# EAGLE library part 692121130100 (library Wurth-USB)
WR-COM USB 3.0 REVERSE HORIZONTAL TYPE A WITH OFFSET 0.14mm=>Code : Con_I-O_COM_USB-3.0_A_692121130100 <http://katalog.we-online.de/media/images/eican/Con_I-O_COM_USB-3.0_A_692121130100_pf2.jpg> Details see: http://katalog.we-online.de/en/em/COM_3_0_TYPE_A_REVERSE_HORIZONTAL_W_OFFSET_0_14MM/692121130100 Created 2014-07-09, Karrer Zheng 2014 (C) Würth Elektronik
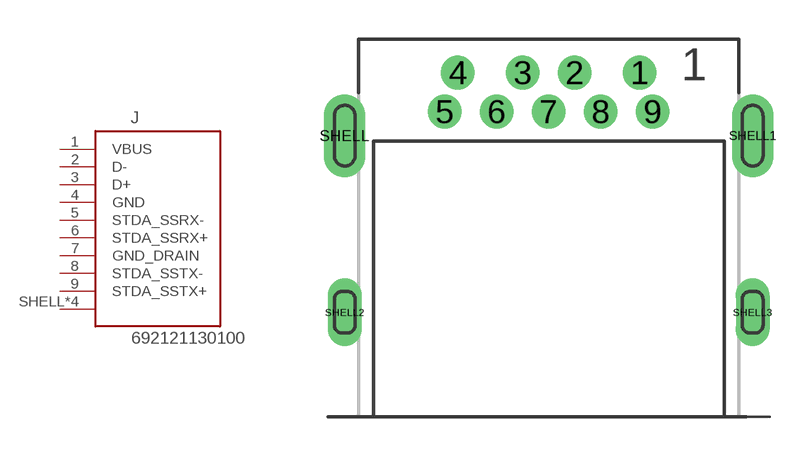
[diagram p80: symbol with the pads of 692121130100; footprint 692121130100]

Designator prefix J

## 692121130100  [692121130100]
1  VBUS
2  D-
3  D+
4  GND
5  STDA_SSRX-
6  STDA_SSRX+
7  GND_DRAIN
8  STDA_SSTX-
9  STDA_SSTX+
SHELL  SHIELD
SHELL1  SHIELD
SHELL2  SHIELD
SHELL3  SHIELD

## Footprint 692121130100 (pad centres in mm)
WR-COM USB 3.0 REVERSE HORIZONTAL TYPE A WITH OFFSET 0.14mm
drill 0.7 pad 1.3: 1 3.5,0; 2 1,0; 3 -1,0; 4 -3.5,0; 5 -4,-1.5; 6 -2,-1.5; 7 0,-1.5; 8 2,-1.5; 9 4,-1.5
drill 0.8 pad 1.6 long: SHELL -7.85,-2.43; SHELL1 7.85,-2.43
drill 0.8 long: SHELL2 -7.85,-9.23; SHELL3 7.85,-9.23